# EAGLE library part MICRO-SD (library octanis-beat)
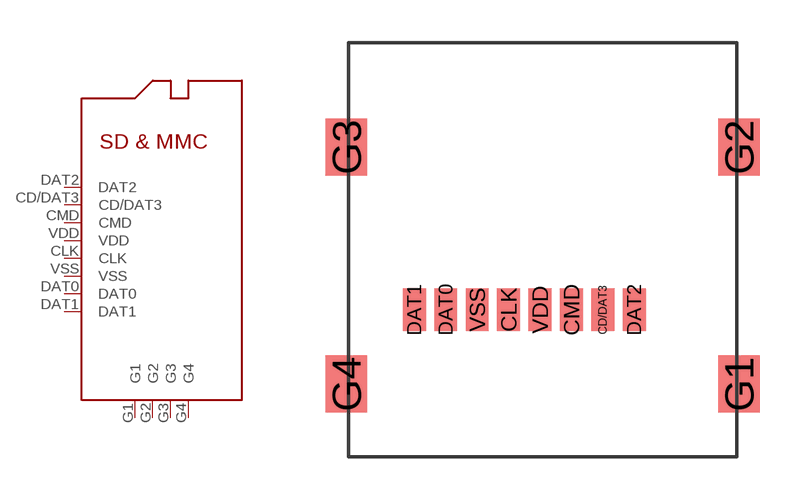
[diagram p1: symbol with the pads of MISCRO-SD; footprint MISCRO-SD]

Designator prefix -

## MICRO-SD  [MISCRO-SD]
CD/DAT3  CD/DAT3
CLK  CLK  in
CMD  CMD  in
DAT0  DAT0  in
DAT1  DAT1  out
DAT2  DAT2
G1  G1
G2  G2
G3  G3
G4  G4
VDD  VDD  sup
VSS  VSS  sup

## Footprint MISCRO-SD (pad centres in mm)
smd 0.8 x 1.5: CD/DAT3 8.98,2.6; CLK 5.68,2.6; CMD 7.88,2.6; DAT0 3.48,2.6; DAT1 2.38,2.6; DAT2 10.08,2.6; VDD 6.78,2.6; VSS 4.58,2.6
smd 1.45 x 2: G1 13.75,0; G2 13.75,8.3; G3 0,8.3; G4 0,0